# EAGLE library part ARDUINO-NANO-JUMPER-2 (library rc_car)
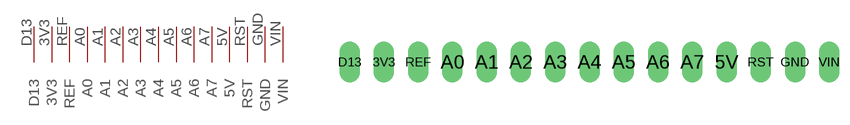
[diagram p3: symbol with the pads of ARDUINO-NANO-JUMPER-2; footprint ARDUINO-NANO-JUMPER-2]

Designator prefix -

## ARDUINO-NANO-JUMPER-2  [ARDUINO-NANO-JUMPER-2]
3V3  3V3
5V  5V
A0  A0
A1  A1
A2  A2
A3  A3
A4  A4
A5  A5
A6  A6
A7  A7
D13  D13
GND  GND
REF  REF
RST  RST
VIN  VIN

## Footprint ARDUINO-NANO-JUMPER-2 (pad centres in mm)
drill 1.016 long: 3V3 -15.24,0; 5V 10.16,0; A0 -10.16,0; A1 -7.62,0; A2 -5.08,0; A3 -2.54,0; A4 0,0; A5 2.54,0; A6 5.08,0; A7 7.62,0; D13 -17.78,0; GND 15.24,0; REF -12.7,0; RST 12.7,0; VIN 17.78,0